# EAGLE library part MM74HC259M (library Fairchild_By_element14_Batch_1)
8-Bit Addressable Latch/3-to-8 Line Decoder
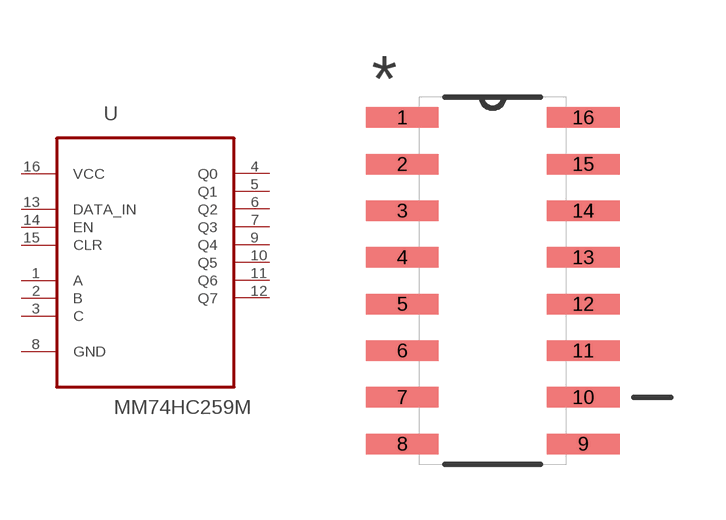
[diagram p268: symbol with the pads of SOIC127P600X175-16N; footprint SOIC127P600X175-16N]

Designator prefix U

## MM74HC259M (MPN: MM74HC259M; OC_FARNELL: 1013974; OC_NEWARK: 78K6071; PACKAGE: SOIC-16; SUPPLIER: Fairchild)  [SOIC127P600X175-16N]
1  A  in
2  B  in
3  C  in
4  Q0  out
5  Q1  out
6  Q2  out
7  Q3  out
8  GND  pas
9  Q4  out
10  Q5  out
11  Q6  out
12  Q7  out
13  DATA_IN  in
14  EN  in
15  CLR  in
16  VCC  pwr

## Footprint SOIC127P600X175-16N (pad centres in mm)
smd 1.981 x 0.559: 1 -2.464,4.445; 2 -2.464,3.175; 3 -2.464,1.905; 4 -2.464,0.635; 5 -2.464,-0.635; 6 -2.464,-1.905; 7 -2.464,-3.175; 8 -2.464,-4.445; 9 2.464,-4.445; 10 2.464,-3.175; 11 2.464,-1.905; 12 2.464,-0.635; 13 2.464,0.635; 14 2.464,1.905; 15 2.464,3.175; 16 2.464,4.445